# EAGLE library part CMU-ARTFAB_F8205A (library piezo-preamp-tickler_V2-RevG)
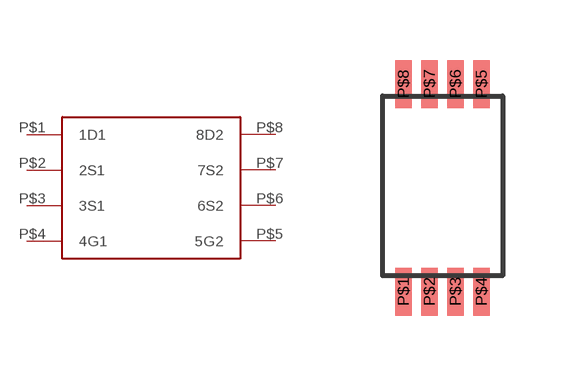
[diagram p1: symbol with the pads of CMU-ARTFAB_F8205A; footprint CMU-ARTFAB_F8205A]

Designator prefix -

## CMU-ARTFAB_F8205A  [CMU-ARTFAB_F8205A]
P$1  1D1
P$2  2S1
P$3  3S1
P$4  4G1
P$5  5G2
P$6  6S2
P$7  7S2
P$8  8D2

## Footprint CMU-ARTFAB_F8205A (pad centres in mm)
smd 0.406 x 1.2: P$1 -0.975,-2.65; P$2 -0.325,-2.65; P$3 0.325,-2.65; P$4 0.975,-2.65; P$5 0.975,2.55; P$6 0.325,2.55; P$7 -0.325,2.55; P$8 -0.975,2.55